# Altium schematic symbol library synth.SchLib: 1 symbol
Pins are listed as number, name and electrical type; pins without a type are passive.

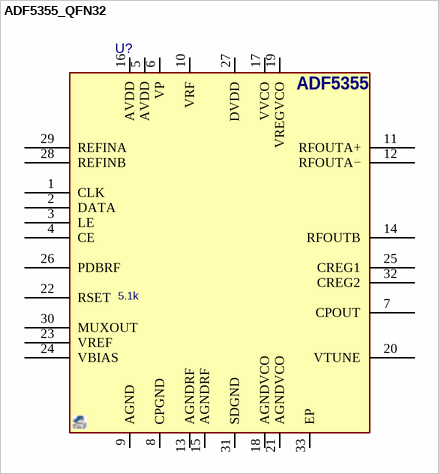
[diagram p0: symbol ADF5355_QFN32]

## ADF5355_QFN32
designator U?, comment ADF5355  (value not drawn)
Synth, Microwave Wideband, w VCO, 54~13,600MHz; MANF: Analog Devices; MANF_P#: ADF5355BCPZ; PARAM2: 5v VCO, 3.3v, 1.8v logic; PARAM: 54~13,600MHz, 54fs, -40~85°C; PRICE: 70$; VALUE: ADF5355
footprint QFN50_32T (HVQFN32, UFQFPN32, QFN-32, RGJ, 5X5X0.9mm, 0.5mm)
pins: 1 CLK, 2 DATA, 3 LE, 4 CE, 5 AVDD, 6 VP, 7 CPOUT, 8 CPGND, 9 AGND, 10 VRF, 11 RFOUTA+, 12 RFOUTA−, 13 AGNDRF, 14 RFOUTB, 15 AGNDRF, 16 AVDD, 17 VVCO, 18 AGNDVCO, 19 VREGVCO, 20 VTUNE, 21 AGNDVCO, 22 RSET, 23 VREF, 24 VBIAS, 25 CREG1, 26 PDBRF, 27 DVDD, 28 REFINB, 29 REFINA, 30 MUXOUT, 31 SDGND, 32 CREG2, 33 EP
text: 5.1k